# Altium schematic symbol library WakameBoard.SCHLIB: 132 symbols
Pins are listed as number, name and electrical type; pins without a type are passive.

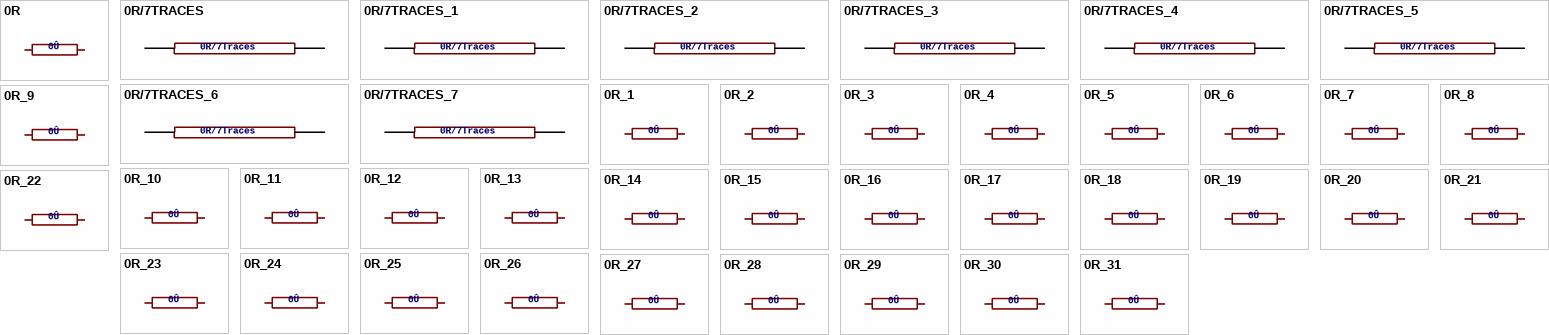
[diagram p0: symbols 0R to 0R_31]

## 0R
designator J?  (value not drawn)
Bridge 0R 10mm; 0Û: 0Û
footprint 0R/10
pins: 1, 2

## 0R/7TRACES
designator U$?
Zero ohm over 7 traces; 0R/7Traces: 0R/7Traces
footprint 0R/7TRACES
pins: P$1, P$2

## 0R/7TRACES_1
designator U$?, comment 0R/7TRACES
Zero ohm over 7 traces; 0R/7Traces: 0R/7Traces
footprint 0R/7TRACES
pins: P$1, P$2

## 0R/7TRACES_2
designator U$?, comment 0R/7TRACES
Zero ohm over 7 traces; 0R/7Traces: 0R/7Traces
footprint 0R/7TRACES
pins: P$1, P$2

## 0R/7TRACES_3
designator U$?, comment 0R/7TRACES
Zero ohm over 7 traces; 0R/7Traces: 0R/7Traces
footprint 0R/7TRACES
pins: P$1, P$2

## 0R/7TRACES_4
designator U$?, comment 0R/7TRACES
Zero ohm over 7 traces; 0R/7Traces: 0R/7Traces
footprint 0R/7TRACES
pins: P$1, P$2

## 0R/7TRACES_5
designator U$?, comment 0R/7TRACES
Zero ohm over 7 traces; 0R/7Traces: 0R/7Traces
footprint 0R/7TRACES
pins: P$1, P$2

## 0R/7TRACES_6
designator U$?, comment 0R/7TRACES
Zero ohm over 7 traces; 0R/7Traces: 0R/7Traces
footprint 0R/7TRACES
pins: P$1, P$2

## 0R/7TRACES_7
designator U$?, comment 0R/7TRACES
Zero ohm over 7 traces; 0R/7Traces: 0R/7Traces
footprint 0R/7TRACES
pins: P$1, P$2

## 0R_1
designator J?, comment 0R  (value not drawn)
Bridge 0R 10mm; 0Û: 0Û
footprint 0R/10
pins: 1, 2

## 0R_2
designator J?, comment 0R  (value not drawn)
Bridge 0R 10mm; 0Û: 0Û
footprint 0R/10
pins: 1, 2

## 0R_3
designator J?, comment 0R  (value not drawn)
Bridge 0R 10mm; 0Û: 0Û
footprint 0R/10
pins: 1, 2

## 0R_4
designator J?, comment 0R  (value not drawn)
Bridge 0R 10mm; 0Û: 0Û
footprint 0R/10
pins: 1, 2

## 0R_5
designator J?, comment 0R  (value not drawn)
Bridge 0R 10mm; 0Û: 0Û
footprint 0R/10
pins: 1, 2

## 0R_6
designator J?, comment 0R  (value not drawn)
Bridge 0R 10mm; 0Û: 0Û
footprint 0R/10
pins: 1, 2

## 0R_7
designator J?, comment 0R  (value not drawn)
Bridge 0R 10mm; 0Û: 0Û
footprint 0R/10
pins: 1, 2

## 0R_8
designator J?, comment 0R  (value not drawn)
Bridge 0R 10mm; 0Û: 0Û
footprint 0R/10
pins: 1, 2

## 0R_9
designator J?, comment 0R  (value not drawn)
Bridge 0R 10mm; 0Û: 0Û
footprint 0R/10
pins: 1, 2

## 0R_10
designator J?, comment 0R  (value not drawn)
Bridge 0R 10mm; 0Û: 0Û
footprint 0R/10
pins: 1, 2

## 0R_11
designator J?, comment 0R  (value not drawn)
Bridge 0R 10mm; 0Û: 0Û
footprint 0R/10
pins: 1, 2

## 0R_12
designator J?, comment 0R  (value not drawn)
Bridge 0R 10mm; 0Û: 0Û
footprint 0R/10
pins: 1, 2

## 0R_13
designator J?, comment 0R  (value not drawn)
Bridge 0R 10mm; 0Û: 0Û
footprint 0R/10
pins: 1, 2

## 0R_14
designator J?, comment 0R  (value not drawn)
Bridge 0R 10mm; 0Û: 0Û
footprint 0R/10
pins: 1, 2

## 0R_15
designator J?, comment 0R  (value not drawn)
Bridge 0R 10mm; 0Û: 0Û
footprint 0R/10
pins: 1, 2

## 0R_16
designator J?, comment 0R  (value not drawn)
Bridge 0R 10mm; 0Û: 0Û
footprint 0R/10
pins: 1, 2

## 0R_17
designator J?, comment 0R  (value not drawn)
Bridge 0R 10mm; 0Û: 0Û
footprint 0R/10
pins: 1, 2

## 0R_18
designator J?, comment 0R  (value not drawn)
Bridge 0R 10mm; 0Û: 0Û
footprint 0R/10
pins: 1, 2

## 0R_19
designator J?, comment 0R  (value not drawn)
Bridge 0R 10mm; 0Û: 0Û
footprint 0R/10
pins: 1, 2

## 0R_20
designator J?, comment 0R  (value not drawn)
Bridge 0R 10mm; 0Û: 0Û
footprint 0R/10
pins: 1, 2

## 0R_21
designator J?, comment 0R  (value not drawn)
Bridge 0R 10mm; 0Û: 0Û
footprint 0R/10
pins: 1, 2

## 0R_22
designator J?, comment 0R  (value not drawn)
Bridge 0R 10mm; 0Û: 0Û
footprint 0R/10
pins: 1, 2

## 0R_23
designator J?, comment 0R  (value not drawn)
Bridge 0R 10mm; 0Û: 0Û
footprint 0R/10
pins: 1, 2

## 0R_24
designator J?, comment 0R  (value not drawn)
Bridge 0R 10mm; 0Û: 0Û
footprint 0R/10
pins: 1, 2

## 0R_25
designator J?, comment 0R  (value not drawn)
Bridge 0R 10mm; 0Û: 0Û
footprint 0R/10
pins: 1, 2

## 0R_26
designator J?, comment 0R  (value not drawn)
Bridge 0R 10mm; 0Û: 0Û
footprint 0R/10
pins: 1, 2

## 0R_27
designator J?, comment 0R  (value not drawn)
Bridge 0R 10mm; 0Û: 0Û
footprint 0R/10
pins: 1, 2

## 0R_28
designator J?, comment 0R  (value not drawn)
Bridge 0R 10mm; 0Û: 0Û
footprint 0R/10
pins: 1, 2

## 0R_29
designator J?, comment 0R  (value not drawn)
Bridge 0R 10mm; 0Û: 0Û
footprint 0R/10
pins: 1, 2

## 0R_30
designator J?, comment 0R  (value not drawn)
Bridge 0R 10mm; 0Û: 0Û
footprint 0R/10
pins: 1, 2

## 0R_31
designator J?, comment 0R  (value not drawn)
Bridge 0R 10mm; 0Û: 0Û
footprint 0R/10
pins: 1, 2

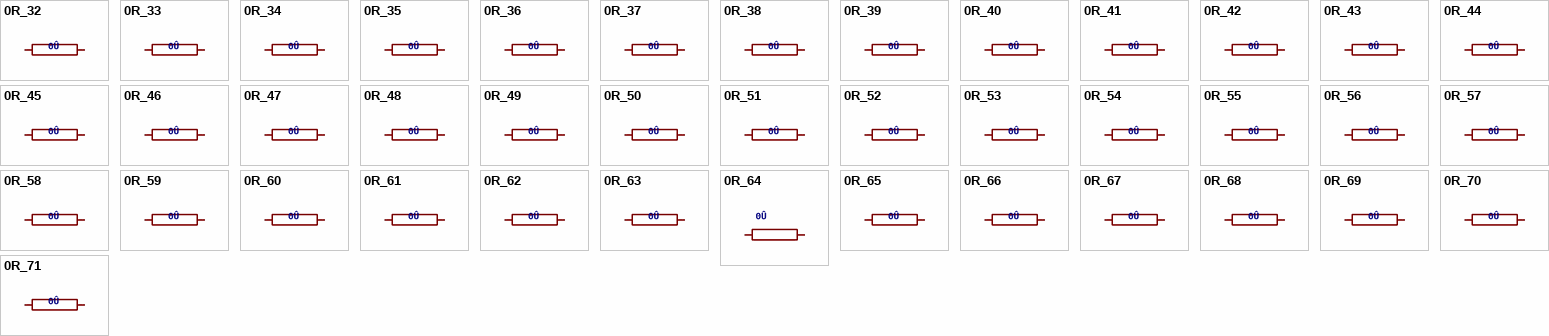
[diagram p1: symbols 0R_32 to 0R_71]

## 0R_32
designator J?, comment 0R  (value not drawn)
Bridge 0R 10mm; 0Û: 0Û
footprint 0R/10
pins: 1, 2

## 0R_33
designator J?, comment 0R  (value not drawn)
Bridge 0R 10mm; 0Û: 0Û
footprint 0R/10
pins: 1, 2

## 0R_34
designator J?, comment 0R  (value not drawn)
Bridge 0R 10mm; 0Û: 0Û
footprint 0R/10
pins: 1, 2

## 0R_35
designator J?, comment 0R  (value not drawn)
Bridge 0R 10mm; 0Û: 0Û
footprint 0R/10
pins: 1, 2

## 0R_36
designator J?, comment 0R  (value not drawn)
Bridge 0R 10mm; 0Û: 0Û
footprint 0R/10
pins: 1, 2

## 0R_37
designator J?, comment 0R  (value not drawn)
Bridge 0R 10mm; 0Û: 0Û
footprint 0R/10
pins: 1, 2

## 0R_38
designator J?, comment 0R  (value not drawn)
Bridge 0R 10mm; 0Û: 0Û
footprint 0R/10
pins: 1, 2

## 0R_39
designator J?, comment 0R  (value not drawn)
Bridge 0R 10mm; 0Û: 0Û
footprint 0R/10
pins: 1, 2

## 0R_40
designator J?, comment 0R  (value not drawn)
Bridge 0R 10mm; 0Û: 0Û
footprint 0R/10
pins: 1, 2

## 0R_41
designator J?, comment 0R  (value not drawn)
Bridge 0R 10mm; 0Û: 0Û
footprint 0R/10
pins: 1, 2

## 0R_42
designator J?, comment 0R  (value not drawn)
Bridge 0R 10mm; 0Û: 0Û
footprint 0R/10
pins: 1, 2

## 0R_43
designator J?, comment 0R  (value not drawn)
Bridge 0R 10mm; 0Û: 0Û
footprint 0R/10
pins: 1, 2

## 0R_44
designator J?, comment 0R  (value not drawn)
Bridge 0R 10mm; 0Û: 0Û
footprint 0R/10
pins: 1, 2

## 0R_45
designator J?, comment 0R  (value not drawn)
Bridge 0R 10mm; 0Û: 0Û
footprint 0R/10
pins: 1, 2

## 0R_46
designator J?, comment 0R  (value not drawn)
Bridge 0R 10mm; 0Û: 0Û
footprint 0R/10
pins: 1, 2

## 0R_47
designator J?, comment 0R  (value not drawn)
Bridge 0R 10mm; 0Û: 0Û
footprint 0R/10
pins: 1, 2

## 0R_48
designator J?, comment 0R  (value not drawn)
Bridge 0R 10mm; 0Û: 0Û
footprint 0R/10
pins: 1, 2

## 0R_49
designator J?, comment 0R  (value not drawn)
Bridge 0R 10mm; 0Û: 0Û
footprint 0R/10
pins: 1, 2

## 0R_50
designator J?, comment 0R  (value not drawn)
Bridge 0R 10mm; 0Û: 0Û
footprint 0R/10
pins: 1, 2

## 0R_51
designator J?, comment 0R  (value not drawn)
Bridge 0R 10mm; 0Û: 0Û
footprint 0R/10
pins: 1, 2

## 0R_52
designator J?, comment 0R  (value not drawn)
Bridge 0R 10mm; 0Û: 0Û
footprint 0R/10
pins: 1, 2

## 0R_53
designator J?, comment 0R  (value not drawn)
Bridge 0R 10mm; 0Û: 0Û
footprint 0R/10
pins: 1, 2

## 0R_54
designator J?, comment 0R  (value not drawn)
Bridge 0R 10mm; 0Û: 0Û
footprint 0R/10
pins: 1, 2

## 0R_55
designator J?, comment 0R  (value not drawn)
Bridge 0R 10mm; 0Û: 0Û
footprint 0R/10
pins: 1, 2

## 0R_56
designator J?, comment 0R  (value not drawn)
Bridge 0R 10mm; 0Û: 0Û
footprint 0R/10
pins: 1, 2

## 0R_57
designator J?, comment 0R  (value not drawn)
Bridge 0R 10mm; 0Û: 0Û
footprint 0R/10
pins: 1, 2

## 0R_58
designator J?, comment 0R  (value not drawn)
Bridge 0R 10mm; 0Û: 0Û
footprint 0R/10
pins: 1, 2

## 0R_59
designator J?, comment 0R  (value not drawn)
Bridge 0R 10mm; 0Û: 0Û
footprint 0R/10
pins: 1, 2

## 0R_60
designator J?, comment 0R  (value not drawn)
Bridge 0R 10mm; 0Û: 0Û
footprint 0R/10
pins: 1, 2

## 0R_61
designator J?, comment 0R  (value not drawn)
Bridge 0R 10mm; 0Û: 0Û
footprint 0R/10
pins: 1, 2

## 0R_62
designator J?, comment 0R  (value not drawn)
Bridge 0R 10mm; 0Û: 0Û
footprint 0R/10
pins: 1, 2

## 0R_63
designator J?, comment 0R  (value not drawn)
Bridge 0R 10mm; 0Û: 0Û
footprint 0R/10
pins: 1, 2

## 0R_64
designator J?, comment 0R  (value not drawn)
Bridge 0R 10mm; 0Û: 0Û
footprint 0R/10
pins: 1, 2

## 0R_65
designator J?, comment 0R  (value not drawn)
Bridge 0R 10mm; 0Û: 0Û
footprint 0R/10
pins: 1, 2

## 0R_66
designator J?, comment 0R  (value not drawn)
Bridge 0R 10mm; 0Û: 0Û
footprint 0R/10
pins: 1, 2

## 0R_67
designator J?, comment 0R  (value not drawn)
Bridge 0R 10mm; 0Û: 0Û
footprint 0R/10
pins: 1, 2

## 0R_68
designator J?, comment 0R  (value not drawn)
Bridge 0R 10mm; 0Û: 0Û
footprint 0R/10
pins: 1, 2

## 0R_69
designator J?, comment 0R  (value not drawn)
Bridge 0R 10mm; 0Û: 0Û
footprint 0R/10
pins: 1, 2

## 0R_70
designator J?, comment 0R  (value not drawn)
Bridge 0R 10mm; 0Û: 0Û
footprint 0R/10
pins: 1, 2

## 0R_71
designator J?, comment 0R  (value not drawn)
Bridge 0R 10mm; 0Û: 0Û
footprint 0R/10
pins: 1, 2

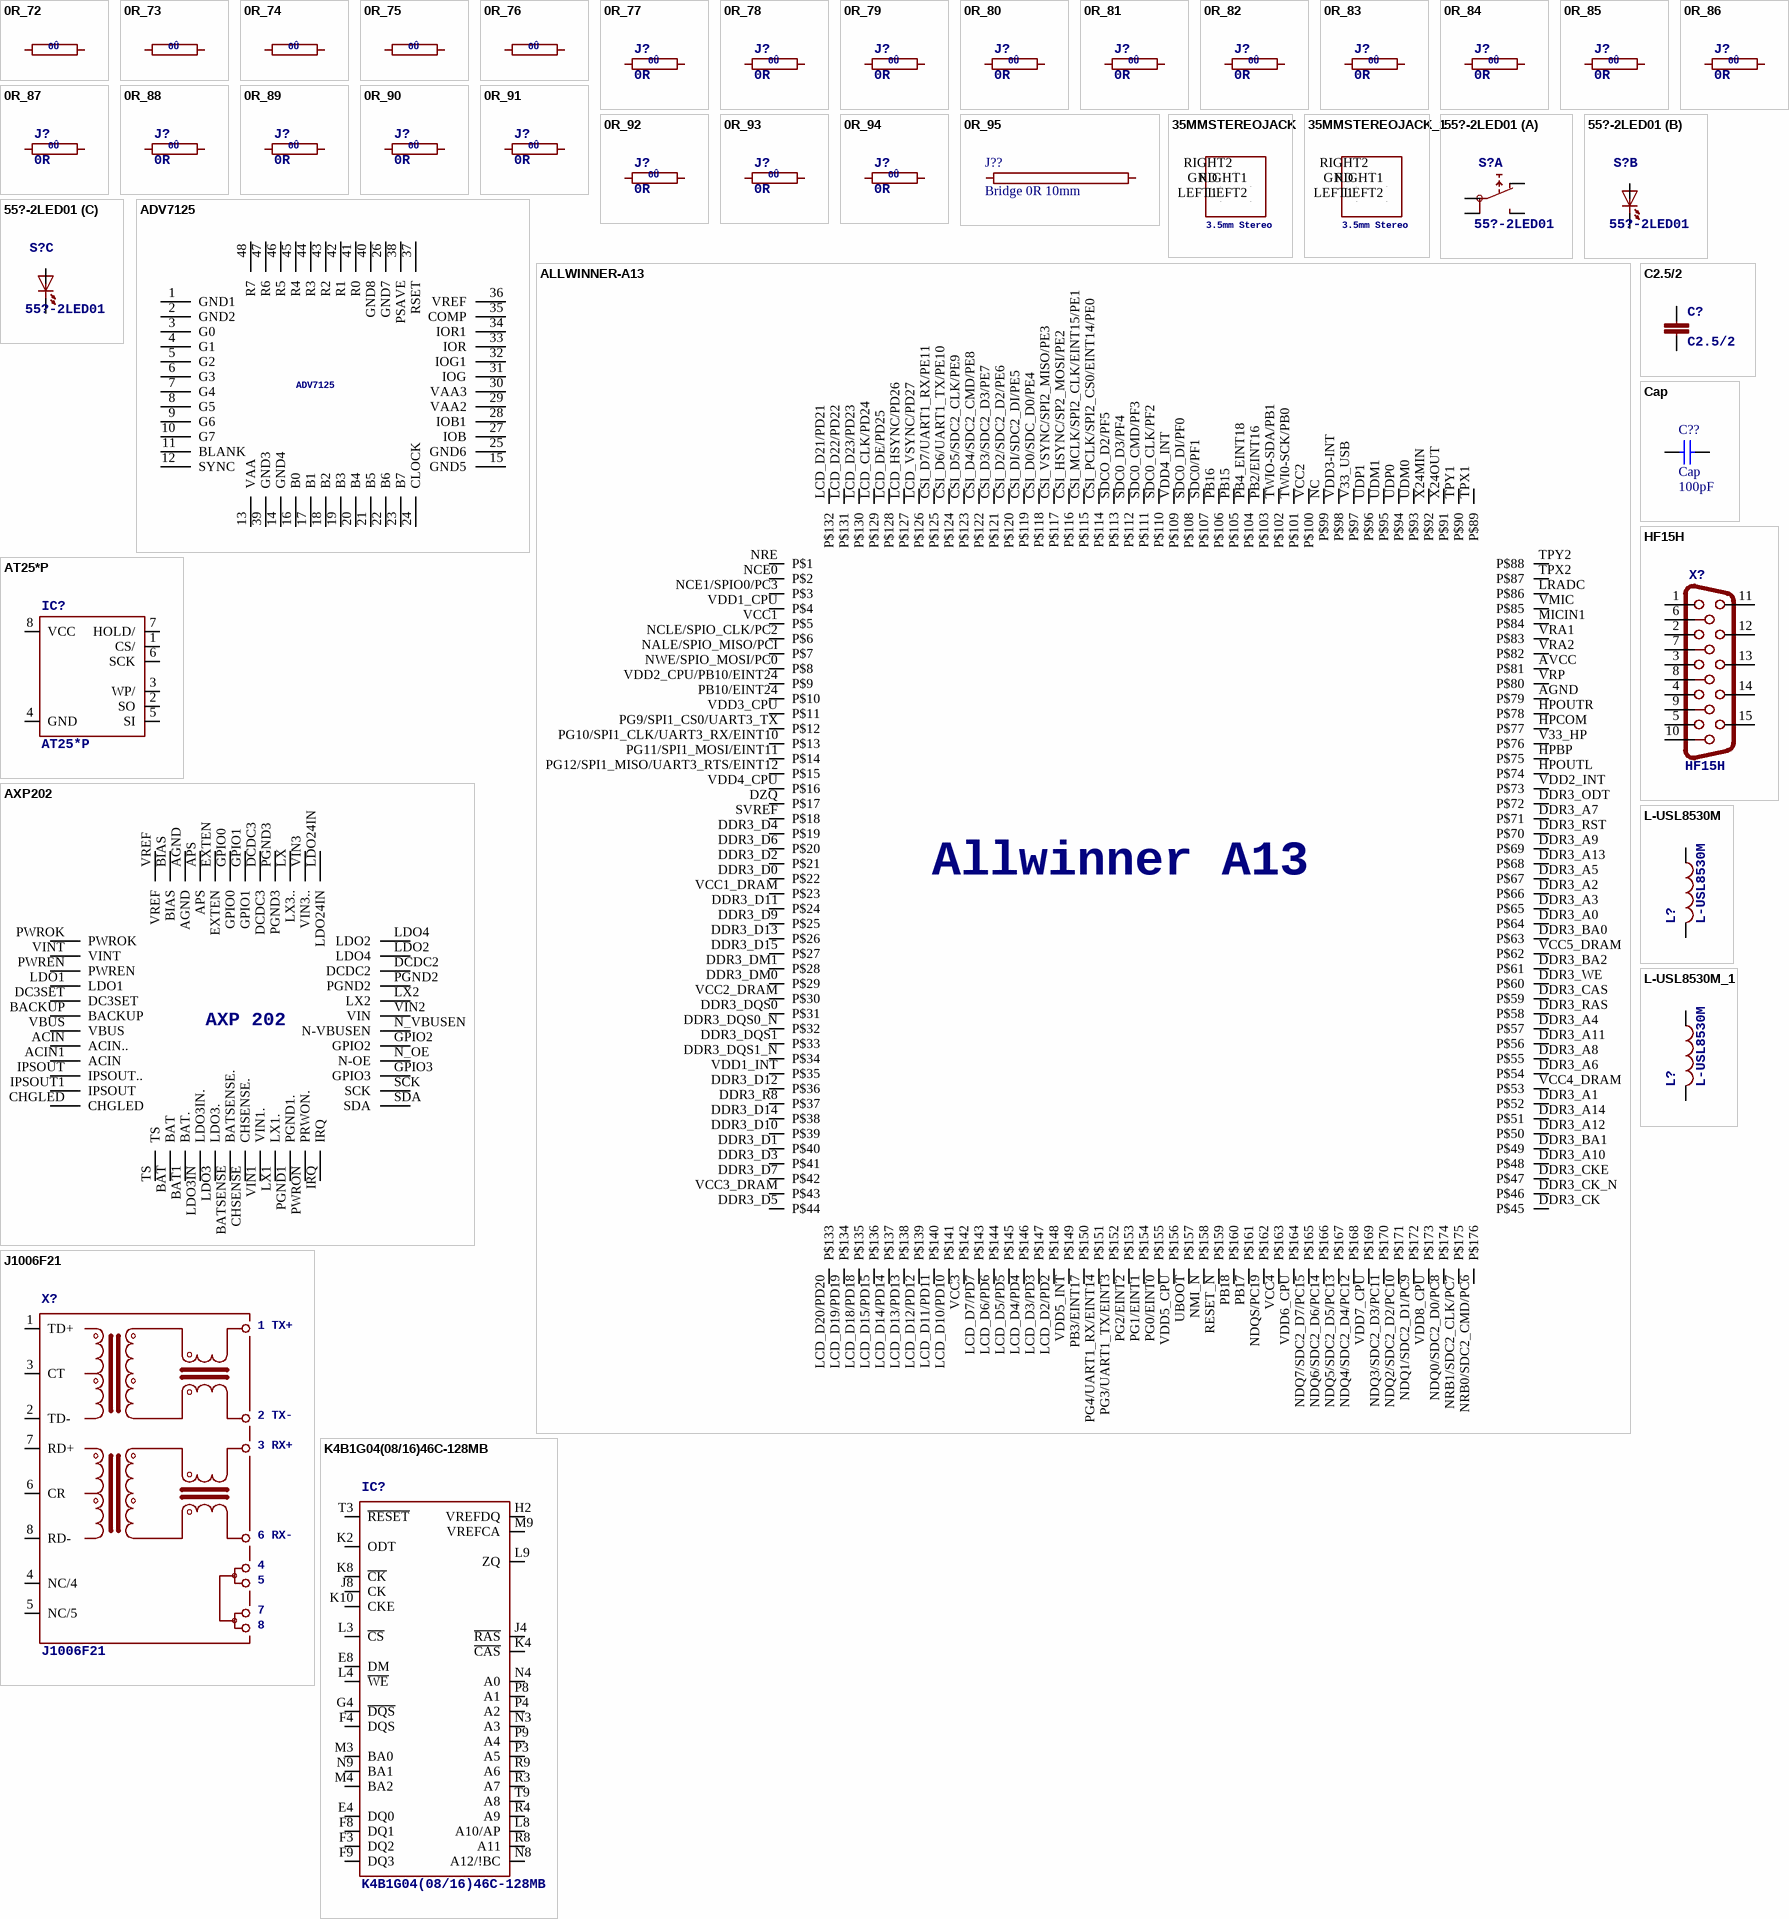
[diagram p2: symbols 0R_72 to L-USL8530M_1]

## 0R_72
designator J?, comment 0R  (value not drawn)
Bridge 0R 10mm; 0Û: 0Û
footprint 0R/10
pins: 1, 2

## 0R_73
designator J?, comment 0R  (value not drawn)
Bridge 0R 10mm; 0Û: 0Û
footprint 0R/10
pins: 1, 2

## 0R_74
designator J?, comment 0R  (value not drawn)
Bridge 0R 10mm; 0Û: 0Û
footprint 0R/10
pins: 1, 2

## 0R_75
designator J?, comment 0R  (value not drawn)
Bridge 0R 10mm; 0Û: 0Û
footprint 0R/10
pins: 1, 2

## 0R_76
designator J?, comment 0R  (value not drawn)
Bridge 0R 10mm; 0Û: 0Û
footprint 0R/10
pins: 1, 2

## 0R_77
designator J?, comment 0R
Bridge 0R 10mm; 0Û: 0Û
footprint 0R/10
pins: 1, 2

## 0R_78
designator J?, comment 0R
Bridge 0R 10mm; 0Û: 0Û
footprint 0R/10
pins: 1, 2

## 0R_79
designator J?, comment 0R
Bridge 0R 10mm; 0Û: 0Û
footprint 0R/10
pins: 1, 2

## 0R_80
designator J?, comment 0R
Bridge 0R 10mm; 0Û: 0Û
footprint 0R/10
pins: 1, 2

## 0R_81
designator J?, comment 0R
Bridge 0R 10mm; 0Û: 0Û
footprint 0R/10
pins: 1, 2

## 0R_82
designator J?, comment 0R
Bridge 0R 10mm; 0Û: 0Û
footprint 0R/10
pins: 1, 2

## 0R_83
designator J?, comment 0R
Bridge 0R 10mm; 0Û: 0Û
footprint 0R/10
pins: 1, 2

## 0R_84
designator J?, comment 0R
Bridge 0R 10mm; 0Û: 0Û
footprint 0R/10
pins: 1, 2

## 0R_85
designator J?, comment 0R
Bridge 0R 10mm; 0Û: 0Û
footprint 0R/10
pins: 1, 2

## 0R_86
designator J?, comment 0R
Bridge 0R 10mm; 0Û: 0Û
footprint 0R/10
pins: 1, 2

## 0R_87
designator J?, comment 0R
Bridge 0R 10mm; 0Û: 0Û
footprint 0R/10
pins: 1, 2

## 0R_88
designator J?, comment 0R
Bridge 0R 10mm; 0Û: 0Û
footprint 0R/10
pins: 1, 2

## 0R_89
designator J?, comment 0R
Bridge 0R 10mm; 0Û: 0Û
footprint 0R/10
pins: 1, 2

## 0R_90
designator J?, comment 0R
Bridge 0R 10mm; 0Û: 0Û
footprint 0R/10
pins: 1, 2

## 0R_91
designator J?, comment 0R
Bridge 0R 10mm; 0Û: 0Û
footprint 0R/10
pins: 1, 2

## 0R_92
designator J?, comment 0R
Bridge 0R 10mm; 0Û: 0Û
footprint 0R/10
pins: 1, 2

## 0R_93
designator J?, comment 0R
Bridge 0R 10mm; 0Û: 0Û
footprint 0R/10
pins: 1, 2

## 0R_94
designator J?, comment 0R
Bridge 0R 10mm; 0Û: 0Û
footprint 0R/10
pins: 1, 2

## 0R_95
designator J??, comment Bridge 0R 10mm
footprint 0R/10
pins: 1, 2

## 35MMSTEREOJACK
designator U$?  (value not drawn)
3.5mm Stereo: 3.5mm Stereo
footprint PG203J
pins: GND P$1, LEFT1 P$2, LEFT2 P$3, RIGHT1 P$4, RIGHT2 P$5

## 35MMSTEREOJACK_1
designator U$?, comment 35MMSTEREOJACK  (value not drawn)
3.5mm Stereo: 3.5mm Stereo
footprint PG203J
pins: GND P$1, LEFT1 P$2, LEFT2 P$3, RIGHT1 P$4, RIGHT2 P$5

## 55?-2LED01
designator S?
<b>PUSHBUTTON SERIES 5500 SWITCHES</b> 2 LED<p> / Source: www.e-switch.com .. 5500.pdf
footprint 5501-2LED
footprint 5501-2LED
footprint 5501-2LED
part A pins: 1A, 1B, NC, NO
part B pins: +R A, -R K
part C pins: +G A, -G K

## ADV7125
designator U$?
ADV7125: ADV7125
footprint LFCSP48
pins: 1 GND1, 2 GND2, 3 G0, 4 G1, 5 G2, 6 G3, 7 G4, 8 G5, 9 G6, 10 G7, 11 BLANK, 12 SYNC, 13 VAA, 14 GND4, 15 GND5, 16 B0, 17 B1, 18 B2, 19 B3, 20 B4, 21 B5, 22 B6, 23 B7, 24 CLOCK, 25 GND6, 26 GND7, 27 IOB, 28 IOB1, 29 VAA2, 30 VAA3, 31 IOG, 32 IOG1, 33 IOR, 34 IOR1, 35 COMP, 36 VREF, 37 RSET, 38 PSAVE, 39 GND3, 40 GND8, 41 R0, 42 R1, 43 R2, 44 R3, 45 R4, 46 R5, 47 R6, 48 R7

## ALLWINNER-A13
designator U$?  (value not drawn)
Allwinner A13: Allwinner A13
footprint PG-LQFP-176-2
pins: AGND P$79, AVCC P$81, CSI_D0/SDC_D0/PE4 P$118, CSI_D2/SDC2_D2/PE6 P$120, CSI_D3/SDC2_D3/PE7 P$121, CSI_D4/SDC2_CMD/PE8 P$122, CSI_D5/SDC2_CLK/PE9 P$123, CSI_D6/UART1_TX/PE10 P$124, CSI_D7/UART1_RX/PE11 P$125, CSI_DI/SDC2_DI/PE5 P$119, CSI_HSYNC/SP2_MOSI/PE2 P$116, CSI_MCLK/SPI2_CLK/EINT15/PE1 P$115, CSI_PCLK/SPI2_CS0/EINT14/PE0 P$114, CSI_VSYNC/SPI2_MISO/PE3 P$117, DDR3_A0 P$64, DDR3_A1 P$52, DDR3_A2 P$66, DDR3_A3 P$65, DDR3_A4 P$57, DDR3_A5 P$67, DDR3_A6 P$54, DDR3_A7 P$71, DDR3_A8 P$55, DDR3_A9 P$69, DDR3_A10 P$48, DDR3_A11 P$56, DDR3_A12 P$50, DDR3_A13 P$68, DDR3_A14 P$51, DDR3_BA0 P$63, DDR3_BA1 P$49, DDR3_BA2 P$61, DDR3_CAS P$59, DDR3_CK P$45, DDR3_CK_N P$46, DDR3_CKE P$47, DDR3_D0 P$22, DDR3_D1 P$40, DDR3_D2 P$21, DDR3_D3 P$41, DDR3_D4 P$19, DDR3_D5 P$44, DDR3_D6 P$20, DDR3_D7 P$42, DDR3_D9 P$25, DDR3_D10 P$39, DDR3_D11 P$24, DDR3_D12 P$36, DDR3_D13 P$26, DDR3_D14 P$38, DDR3_D15 P$27, DDR3_DM0 P$29, DDR3_DM1 P$28, DDR3_DQS0 P$31, DDR3_DQS0_N P$32, DDR3_DQS1 P$33, DDR3_DQS1_N P$34, DDR3_ODT P$72, DDR3_R8 P$37, DDR3_RAS P$58, DDR3_RST P$70, DDR3_WE P$60, DZQ P$17, HPBP P$75, HPCOM P$77, HPOUTL P$74, HPOUTR P$78, LCD_CLK/PD24 P$129, LCD_D2/PD2 P$148, LCD_D3/PD3 P$147, LCD_D4/PD4 P$146, LCD_D5/PD5 P$145, LCD_D6/PD6 P$144, LCD_D7/PD7 P$143, LCD_D10/PD10 P$141, LCD_D11/PD11 P$140, LCD_D12/PD12 P$139, LCD_D13/PD13 P$138, LCD_D14/PD14 P$137, LCD_D15/PD15 P$136, LCD_D18/PD18 P$135, LCD_D19/PD19 P$134, LCD_D20/PD20 P$133, LCD_D21/PD21 P$132, LCD_D22/PD22 P$131, LCD_D23/PD23 P$130, LCD_DE/PD25 P$128, LCD_HSYNC/PD26 P$127, LCD_VSYNC/PD27 P$126, LRADC P$86, MICIN1 P$84, NALE/SPIO_MISO/PCI P$7, NC P$99, NCE0 P$2, NCE1/SPIO0/PC3 P$3, NCLE/SPIO_CLK/PC2 P$6, NDQ0/SDC2_D0/PC8 P$174, NDQ1/SDC2_D1/PC9 P$172, NDQ2/SDC2_D2/PC10 P$171, NDQ3/SDC2_D3/PC11 P$170, NDQ4/SDC2_D4/PC12 P$168, NDQ5/SDC2_D5/PC13 P$167, NDQ6/SDC2_D6/PC14 P$166, NDQ7/SDC2_D7/PC15 P$165, NDQS/PC19 P$162, NMI_N P$158, NRB0/SDC2_CMD/PC6 P$176, NRB1/SDC2_CLK/PC7 P$175, NRE P$1, NWE/SPIO_MOSI/PC0 P$8, PB2/EINT16 P$103, PB3/EINT17 P$150, PB4_EINT18 P$104, PB10/EINT24 P$10, PB15 P$105, PB16 P$106, PB17 P$161, PB18 P$160, PG0/EINT0 P$155, PG1/EINT1 P$154, PG2/EINT2 P$153, PG3/UART1_TX/EINT3 P$152, PG4/UART1_RX/EINT14 P$151, PG9/SPI1_CS0/UART3_TX P$12, PG10/SPI1_CLK/UART3_RX/EINT10 P$13, PG11/SPI1_MOSI/EINT11 P$14, PG12/SPI1_MISO/UART3_RTS/EINT12 P$15, RESET_N P$159, SDC0/PF1 P$107, SDC0_CLK/PF2 P$110, SDC0_CMD/PF3 P$111, SDC0_D3/PF4 P$112, SDC0_DI/PF0 P$108, SDCO_D2/PF5 P$113, SVREF P$18, TPX1 P$89, TPX2 P$87, TPY1 P$90, TPY2 P$88, TWI0-SCK/PB0 P$101, TWIO-SDA/PB1 P$102, UBOOT P$157, UDM0 P$93, UDM1 P$95, UDP0 P$94, UDP1 P$96, V33_HP P$76, V33_USB P$97, VCC1 P$5, VCC1_DRAM P$23, VCC2 P$100, VCC2_DRAM P$30, VCC3 P$142, VCC3_DRAM P$43, VCC4 P$163, VCC4_DRAM P$53, VCC5_DRAM P$62, VDD1_CPU P$4, VDD1_INT P$35, VDD2_CPU/PB10/EINT24 P$9, VDD2_INT P$73, VDD3-INT P$98, VDD3_CPU P$11, VDD4_CPU P$16, VDD4_INT P$109, VDD5_CPU P$156, VDD5_INT P$149, VDD6_CPU P$164, VDD7_CPU P$169, VDD8_CPU P$173, VMIC P$85, VRA1 P$83, VRA2 P$82, VRP P$80, X24MIN P$92, X24OUT P$91

## AT25*P
designator IC?
SPI bus serial <B>EEPROM</B>; MPN: CAT25040LI-G; OC_FARNELL: 1718045; OC_NEWARK: 06R0588
footprint DIL08
pins: 1 CS/, 2 SO, 3 WP/, 4 GND (power), 5 SI, 6 SCK, 7 HOLD/, 8 VCC (power)

## AXP202
designator U$?  (value not drawn)
Allwinner a13 pwr ic; AXP 202: AXP 202
footprint QFN48
pins: ACIN ACIN.., ACIN1 ACIN, AGND, APS, BACKUP, BAT, BAT1 BAT., BATSENSE BATSENSE., BIAS, CHGLED, CHSENSE CHSENSE., DC3SET, DCDC2, DCDC3, EXTEN, GPIO0, GPIO1, GPIO2, GPIO3, IPSOUT IPSOUT.., IPSOUT1 IPSOUT, IRQ, LDO1, LDO2 LDO4, LDO3 LDO3., LDO3IN LDO3IN., LDO4 LDO2, LDO24IN, LX LX3.., LX1 LX1., LX2, N_OE N-OE, N_VBUSEN N-VBUSEN, PGND1 PGND1., PGND2, PGND3, PWREN, PWROK, PWRON PRWON., SCK, SDA, TS, VBUS, VIN1 VIN1., VIN2 VIN, VIN3 VIN3.., VINT, VREF

## C2.5/2
designator C?
<B>CAPACITOR</B><p> / naming: grid - package width
footprint C2.5-2
pins: 1, 2

## Cap
designator C??  value 100pF
Capacitor; Published: 8-Jun-2000; LatestRevisionDate: 17-Jul-2002; LatestRevisionNote: Re-released for DXP Platform.; PackageReference: RAD-0.3; Publisher: Altium Limited
footprint RAD-0.3 (Capacitor; 2 Leads)
footprint VP32-3.2 (Capacitor, Ceramic, Thru-Hole, Dipped Radial; Body 5.1 x 3.2 mm (WxT) Pin Spacing 2.54 mm (typ))
footprint VP45-3.2 (Capacitor, Ceramic, Thru-Hole, Dipped Radial; Body 7.8 x 3.2 mm (WxT) Pin Spacing 5.08 mm (typ))
simulation model CAP (Capacitor)
signal-integrity model Cap
pins: 1, 2

## HF15H
designator X?
<b>SUB-D</b>; OC_FARNELL: unknown; OC_NEWARK: unknown
footprint HDF15H
pins: 1, 2, 3, 4, 5, 6, 7, 8, 9, 10, 11, 12, 13, 14, 15

## J1006F21
designator X?
<b>PULSEJACK (TM) 1x1 Tab-UP RJ45</b><p> / 10/100 Base-TX RJ45 1x1 Tab-UP with LEDs 8-pin (J1 series) and 6-pin (JP series) integrated magnetics connector,<br> / designed to support applications, such as ADSL modems, LAN-on-Motherboard, and Hub and Switches.<; OC_FARNELL: unknown; OC_NEWARK: unknown; 1 TX+: 1 TX+; 2 TX-: 2 TX-; 3 RX+: 3 RX+; 6 RX-: 6 RX-; 4: 4; 5: 5; 7: 7; 8: 8
footprint J1
pins: 1 TD+, 2 TD-, 3 CT, 4 NC/4, 5 NC/5, 6 CR, 7 RD+, 8 RD-

## K4B1G04(08/16)46C-128MB
designator IC?
<b>128Mx 72 - 1GB</b> DDR3 SDRAM<p> / Source: http://www.samsung.com/global/business/semiconductor/products/dram/downloads/ddr3_product_guide_july_07.pdf; OC_FARNELL: unknown; OC_NEWARK: unknown
footprint FBGA-94-C
pins: E4 DQ0, E8 DM, F3 DQ2, F4 DQS, F8 DQ1, F9 DQ3, G4 ~{DQS}, H2 VREFDQ, J4 ~{RAS}, J8 CK, K2 ODT, K4 ~{CAS}, K8 ~{CK}, K10 CKE, L3 ~{CS}, L4 ~{WE}, L8 A10/AP, L9 ZQ, M3 BA0, M4 BA2, M8 NC, M9 VREFCA, N3 A3, N4 A0, N8 A12/!BC, N9 BA1, P3 A5, P4 A2, P8 A1, P9 A4, R3 A7, R4 A9, R8 A11, R9 A6, T3 ~{RESET}, T4 NC, T8 NC, T9 A8

## L-USL8530M
designator L?
<B>INDUCTOR</B>, American symbol
footprint L8530M
pins: 1, 2

## L-USL8530M_1
designator L?, comment L-USL8530M
<B>INDUCTOR</B>, American symbol
footprint L8530M
pins: 1, 2

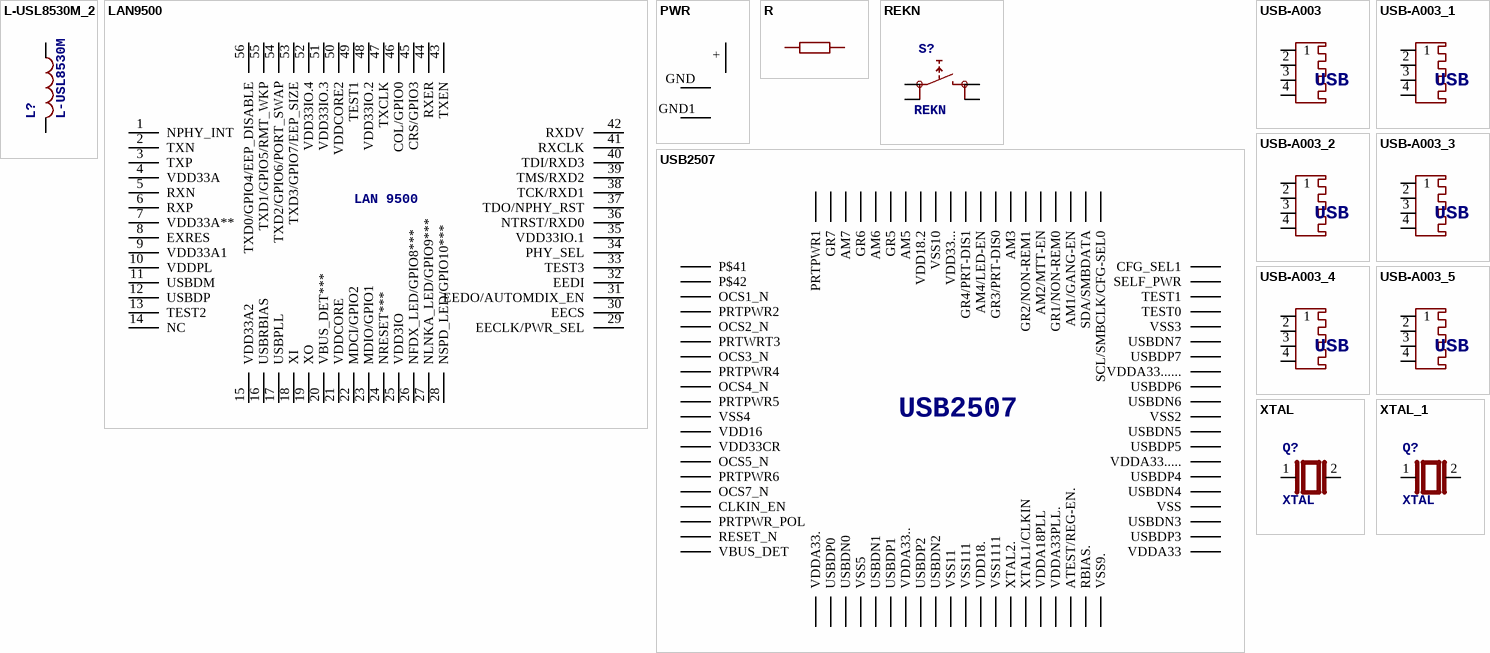
[diagram p3: symbols L-USL8530M_2 to XTAL_1]

## L-USL8530M_2
designator L?, comment L-USL8530M
<B>INDUCTOR</B>, American symbol
footprint L8530M
pins: 1, 2

## LAN9500
designator U$?  (value not drawn)
LAN 9500: LAN 9500
footprint QFN56
pins: 1 NPHY_INT, 2 TXN, 3 TXP, 4 VDD33A, 5 RXN, 6 RXP, 7 VDD33A**, 8 EXRES, 9 VDD33A1, 10 VDDPL, 11 USBDM, 12 USBDP, 13 TEST2, 14 NC, 15 VDD33A2, 16 USBRBIAS, 17 USBPLL, 18 XI, 19 XO, 20 VBUS_DET***, 21 VDDCORE, 22 MDCI/GPIO2, 23 MDIO/GPIO1, 24 NRESET***, 25 VDD3IO, 26 NFDX_LED/GPIO8***, 27 NLNKA_LED/GPIO9***, 28 NSPD_LED/GPIO10***, 29 EECLK/PWR_SEL, 30 EECS, 31 EEDO/AUTOMDIX_EN, 32 EEDI, 33 TEST3, 34 PHY_SEL, 35 VDD33IO.1, 36 NTRST/RXD0, 37 TDO/NPHY_RST, 38 TCK/RXD1, 39 TMS/RXD2, 40 TDI/RXD3, 41 RXCLK, 42 RXDV, 43 TXEN, 44 RXER, 45 CRS/GPIO3, 46 COL/GPIO0, 47 TXCLK, 48 VDD33IO.2, 49 TEST1, 50 VDDCORE2, 51 VDD33IO.3, 52 VDD33IO.4, 53 TXD3/GPIO7/EEP_SIZE, 54 TXD2/GPIO6/PORT_SWAP, 55 TXD1/GPIO5/RMT_WKP, 56 TXD0/GPIO4/EEP_DISABLE

## PWR
designator U$?  (value not drawn)
Main Power Jack
footprint SCD-014-A
pins: +, GND, GND1

## R
designator R?  (value not drawn)
<b>RESISTOR</b>

## REKN
designator S?
<b>PUSH SWITCH</b><p> / ITT-Cannon-Cannon
footprint REKN
pins: 0A 0, 0B 0, 1A 1, 1B 1

## USB2507
designator U$?
usb 2507 hub on chiip; USB2507: USB2507
footprint TQFP80
pins: AM1/GANG_EN AM1/GANG-EN, AM2/MTT_EN AM2/MTT-EN, AM3, AM4/LED_EN AM4/LED-EN, AM5, AM6, AM7, ATEST/REG_EN ATEST/REG-EN., CFG_SEL1, CLKIN_EN, GR1/NON_REM0 GR1/NON-REM0, GR2_NON_REM1 GR2/NON-REM1, GR3/PRT_DIS0 GR3/PRT-DIS0, GR4/PRT_DIS1 GR4/PRT-DIS1, GR5, GR6, GR7, OCS1_N P$41, OCS2_N OCS1_N, OCS3_N OCS2_N, OCS4_N OCS3_N, OCS5_N VDD16, OCS6_N OCS5_N, OCS7_N, PRTPWR1, PRTPWR2 P$42, PRTPWR3 PRTPWR2, PRTPWR4 PRTWRT3, PRTPWR5 PRTPWR4, PRTPWR6 VDD33CR, PRTPWR7 PRTPWR6, PRTPWR_POL, RBIAS RBIAS., RESET_N, SCL/SMBCLK/CFG_SEL0 SCL/SMBCLK/CFG-SEL0, SDA/SMBDATA, SELF_PWR, TEST0, TEST1, USBDN0, USBDN1, USBDN2, USBDN3, USBDN4, USBDN5, USBDN6, USBDN7, USBDP0, USBDP1, USBDP2, USBDP3, USBDP4, USBDP5, USBDP6, USBDP7, VBUS_DET, VDD18 VDD18.2, VDD18.2 PRTPWR5, VDD18.3 VDD18., VDD33 VDDA33, VDD33.3 VDD33..., VDD33CR VSS4, VDDA3.1 VDDA33.., VDDA18/PLL VDDA18PLL, VDDA33 VDDA33....., VDDA33.2 VDDA33......, VDDA33.4 VDDA33., VDDA33/PLL VDDA33PLL., VSS, VSS0 VSS9., VSS1 VSS2, VSS3, VSS4 VSS10, VSS5 OCS4_N, VSS6 VSS5, VSS7 VSS11, VSS8 VSS111, VSS9 VSS1111, XTAL1/CLKIN, XTAL2 XTAL2.

## USB-A003
designator X?  (value not drawn)
<b>USB connector</b>; OC_FARNELL: unknown; OC_NEWARK: unknown; USB: USB
footprint USB-A003
pins: 1, 2, 3, 4

## USB-A003_1
designator X?, comment USB-A003  (value not drawn)
<b>USB connector</b>; OC_FARNELL: unknown; OC_NEWARK: unknown; USB: USB
footprint USB-A003
pins: 1, 2, 3, 4

## USB-A003_2
designator X?, comment USB-A003  (value not drawn)
<b>USB connector</b>; OC_FARNELL: unknown; OC_NEWARK: unknown; USB: USB
footprint USB-A003
pins: 1, 2, 3, 4

## USB-A003_3
designator X?, comment USB-A003  (value not drawn)
<b>USB connector</b>; OC_FARNELL: unknown; OC_NEWARK: unknown; USB: USB
footprint USB-A003
pins: 1, 2, 3, 4

## USB-A003_4
designator X?, comment USB-A003  (value not drawn)
<b>USB connector</b>; OC_FARNELL: unknown; OC_NEWARK: unknown; USB: USB
footprint USB-A003
pins: 1, 2, 3, 4

## USB-A003_5
designator X?, comment USB-A003  (value not drawn)
<b>USB connector</b>; OC_FARNELL: unknown; OC_NEWARK: unknown; USB: USB
footprint USB-A003
pins: 1, 2, 3, 4

## XTAL
designator Q?
<B>CRYSTAL</B>
footprint Q
pins: 1, 2

## XTAL_1
designator Q?, comment XTAL
<B>CRYSTAL</B>
footprint Q
pins: 1, 2